# EAGLE library part DIMM_II_MODUL_240 (library con-hirose-dxlm)
DDR2 DIMM Socket Source: http://pinouts.ru/Memory/dimm_ddr2_pinout.shtml Auto generated by make-symbol-device-package-bsdl.ulp Rev. 20
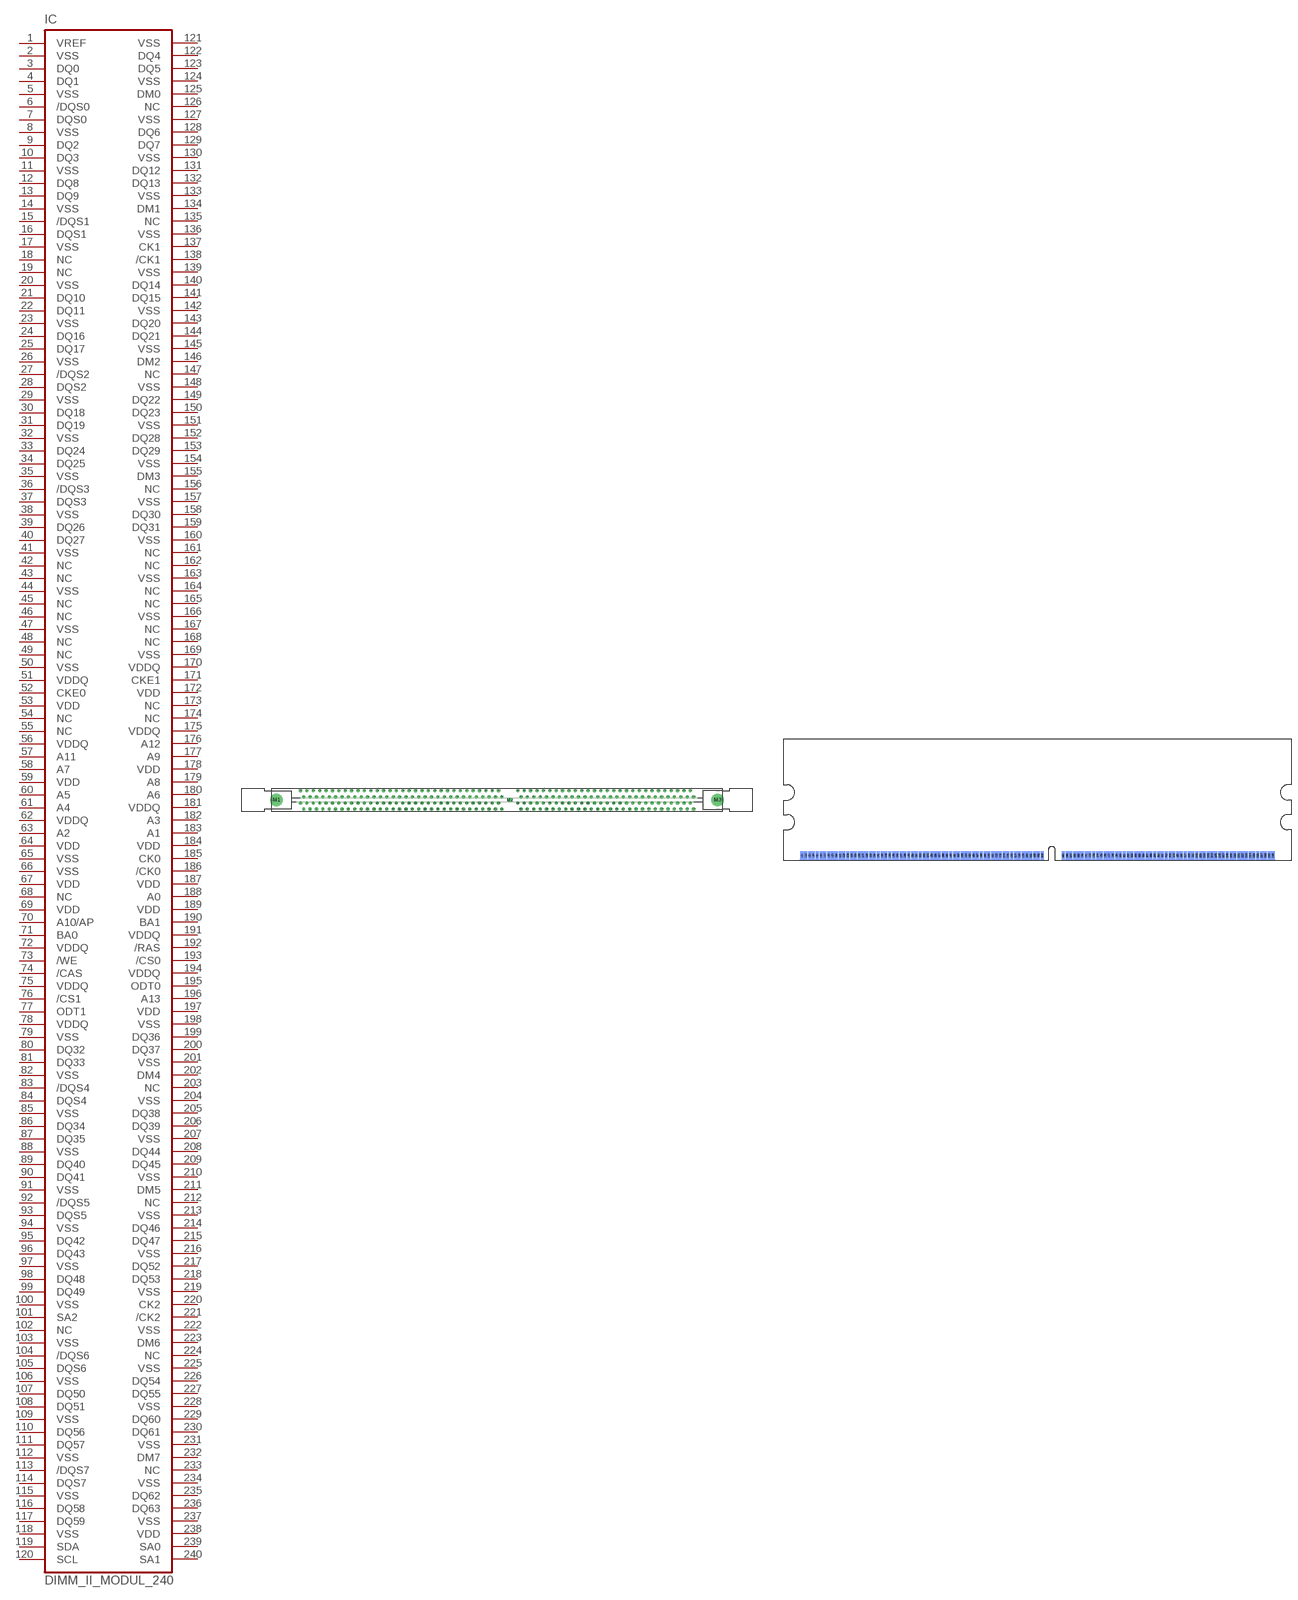
[diagram p138: symbol with the pads of 1734773-DDR2; footprints 1734773-DDR2, DIMII-240]

Designator prefix IC

## DIMM_II_MODUL_240  [1734773-DDR2]
1  VREF  pas
2  VSS  pas
3  DQ0  pas
4  DQ1  pas
5  VSS  pas
6  /DQS0  pas
7  DQS0  pas
8  VSS  pas
9  DQ2  pas
10  DQ3  pas
11  VSS  pas
12  DQ8  pas
13  DQ9  pas
14  VSS  pas
15  /DQS1  pas
16  DQS1  pas
17  VSS  pas
18  NC  pas
19  NC  pas
20  VSS  pas
21  DQ10  pas
22  DQ11  pas
23  VSS  pas
24  DQ16  pas
25  DQ17  pas
26  VSS  pas
27  /DQS2  pas
28  DQS2  pas
29  VSS  pas
30  DQ18  pas
31  DQ19  pas
32  VSS  pas
33  DQ24  pas
34  DQ25  pas
35  VSS  pas
36  /DQS3  pas
37  DQS3  pas
38  VSS  pas
39  DQ26  pas
40  DQ27  pas
41  VSS  pas
42  NC  pas
43  NC  pas
44  VSS  pas
45  NC  pas
46  NC  pas
47  VSS  pas
48  NC  pas
49  NC  pas
50  VSS  pas
51  VDDQ  pas
52  CKE0  pas
53  VDD  pas
54  NC  pas
55  NC  pas
56  VDDQ  pas
57  A11  pas
58  A7  pas
59  VDD  pas
60  A5  pas
61  A4  pas
62  VDDQ  pas
63  A2  pas
64  VDD  pas
65  VSS  pas
66  VSS  pas
67  VDD  pas
68  NC  pas
69  VDD  pas
70  A10/AP  pas
71  BA0  pas
72  VDDQ  pas
73  /WE  pas
74  /CAS  pas
75  VDDQ  pas
76  /CS1  pas
77  ODT1  pas
78  VDDQ  pas
79  VSS  pas
80  DQ32  pas
81  DQ33  pas
82  VSS  pas
83  /DQS4  pas
84  DQS4  pas
85  VSS  pas
86  DQ34  pas
87  DQ35  pas
88  VSS  pas
89  DQ40  pas
90  DQ41  pas
91  VSS  pas
92  /DQS5  pas
93  DQS5  pas
94  VSS  pas
95  DQ42  pas
96  DQ43  pas
97  VSS  pas
98  DQ48  pas
99  DQ49  pas
100  VSS  pas
101  SA2  pas
102  NC  pas
103  VSS  pas
104  /DQS6  pas
105  DQS6  pas
106  VSS  pas
107  DQ50  pas
108  DQ51  pas
109  VSS  pas
110  DQ56  pas
111  DQ57  pas
112  VSS  pas
113  /DQS7  pas
114  DQS7  pas
115  VSS  pas
116  DQ58  pas
117  DQ59  pas
118  VSS  pas
119  SDA  pas
120  SCL  pas
121  VSS  pas
122  DQ4  pas
123  DQ5  pas
124  VSS  pas
125  DM0  pas
126  NC  pas
127  VSS  pas
128  DQ6  pas
129  DQ7  pas
130  VSS  pas
131  DQ12  pas
132  DQ13  pas
133  VSS  pas
134  DM1  pas
135  NC  pas
136  VSS  pas
137  CK1  pas
138  /CK1  pas
139  VSS  pas
140  DQ14  pas
141  DQ15  pas
142  VSS  pas
143  DQ20  pas
144  DQ21  pas
145  VSS  pas
146  DM2  pas
147  NC  pas
148  VSS  pas
149  DQ22  pas
150  DQ23  pas
151  VSS  pas
152  DQ28  pas
153  DQ29  pas
154  VSS  pas
155  DM3  pas
156  NC  pas
157  VSS  pas
158  DQ30  pas
159  DQ31  pas
160  VSS  pas
161  NC  pas
162  NC  pas
163  VSS  pas
164  NC  pas
165  NC  pas
166  VSS  pas
167  NC  pas
168  NC  pas
169  VSS  pas
170  VDDQ  pas
171  CKE1  pas
172  VDD  pas
173  NC  pas
174  NC  pas
175  VDDQ  pas
176  A12  pas
177  A9  pas
178  VDD  pas
179  A8  pas
180  A6  pas
181  VDDQ  pas
182  A3  pas
183  A1  pas
184  VDD  pas
185  CK0  pas
186  /CK0  pas
187  VDD  pas
188  A0  pas
189  VDD  pas
190  BA1  pas
191  VDDQ  pas
192  /RAS  pas
193  /CS0  pas
194  VDDQ  pas
195  ODT0  pas
196  A13  pas
197  VDD  pas
198  VSS  pas
199  DQ36  pas
200  DQ37  pas
201  VSS  pas
202  DM4  pas
203  NC  pas
204  VSS  pas
205  DQ38  pas
206  DQ39  pas
207  VSS  pas
208  DQ44  pas
209  DQ45  pas
210  VSS  pas
211  DM5  pas
212  NC  pas
213  VSS  pas
214  DQ46  pas
215  DQ47  pas
216  VSS  pas
217  DQ52  pas
218  DQ53  pas
219  VSS  pas
220  CK2  pas
221  /CK2  pas
222  VSS  pas
223  DM6  pas
224  NC  pas
225  VSS  pas
226  DQ54  pas
227  DQ55  pas
228  VSS  pas
229  DQ60  pas
230  DQ61  pas
231  VSS  pas
232  DM7  pas
233  NC  pas
234  VSS  pas
235  DQ62  pas
236  DQ63  pas
237  VSS  pas
238  VDD  pas
239  SA0  pas
240  SA1  pas

## DIMM_II_MODUL_240-CARD  [DIMII-240]
Pads as for 1734773-DDR2

## Footprint 1734773-DDR2 (pad centres in mm)
DIMM II (DDR II) 240 Pin Connector Source: http://catalog.tycoelectronics.com .. ENG_CD_1734773_B.tif
drill 0.5 pad 0.9: 1 -64.5,-2.85; 2 -65.5,-0.95; 3 -62.5,-2.85; 4 -63.5,-0.95; 5 -60.5,-2.85; 6 -61.5,-0.95; 7 -58.5,-2.85; 8 -59.5,-0.95; 9 -56.5,-2.85; 10 -57.5,-0.95; 11 -54.5,-2.85; 12 -55.5,-0.95; 13 -52.5,-2.85; 14 -53.5,-0.95; 15 -50.5,-2.85; 16 -51.5,-0.95; 17 -48.5,-2.85; 18 -49.5,-0.95; 19 -46.5,-2.85; 20 -47.5,-0.95; 21 -44.5,-2.85; 22 -45.5,-0.95; 23 -42.5,-2.85; 24 -43.5,-0.95; 25 -40.5,-2.85; 26 -41.5,-0.95; 27 -38.5,-2.85; 28 -39.5,-0.95; 29 -36.5,-2.85; 30 -37.5,-0.95; 31 -34.5,-2.85; 32 -35.5,-0.95; 33 -32.5,-2.85; 34 -33.5,-0.95; 35 -30.5,-2.85; 36 -31.5,-0.95; 37 -28.5,-2.85; 38 -29.5,-0.95; 39 -26.5,-2.85; 40 -27.5,-0.95; 41 -24.5,-2.85; 42 -25.5,-0.95; 43 -22.5,-2.85; 44 -23.5,-0.95; 45 -20.5,-2.85; 46 -21.5,-0.95; 47 -18.5,-2.85; 48 -19.5,-0.95; 49 -16.5,-2.85; 50 -17.5,-0.95; 51 -14.5,-2.85; 52 -15.5,-0.95; 53 -12.5,-2.85; 54 -13.5,-0.95; 55 -10.5,-2.85; 56 -11.5,-0.95; 57 -8.5,-2.85; 58 -9.5,-0.95; 59 -6.5,-2.85; 60 -7.5,-0.95; 61 -4.5,-2.85; 62 -5.5,-0.95; 63 -2.5,-2.85; 64 -3.5,-0.95; 65 3.5,-2.85; 66 2.5,-0.95; 67 5.5,-2.85; 68 4.5,-0.95; 69 7.5,-2.85; 70 6.5,-0.95; 71 9.5,-2.85; 72 8.5,-0.95; 73 11.5,-2.85; 74 10.5,-0.95; 75 13.5,-2.85; 76 12.5,-0.95; 77 15.5,-2.85; 78 14.5,-0.95; 79 17.5,-2.85; 80 16.5,-0.95; 81 19.5,-2.85; 82 18.5,-0.95; 83 21.5,-2.85; 84 20.5,-0.95; 85 23.5,-2.85; 86 22.5,-0.95; 87 25.5,-2.85; 88 24.5,-0.95; 89 27.5,-2.85; 90 26.5,-0.95; 91 29.5,-2.85; 92 28.5,-0.95; 93 31.5,-2.85; 94 30.5,-0.95; 95 33.5,-2.85; 96 32.5,-0.95; 97 35.5,-2.85; 98 34.5,-0.95; 99 37.5,-2.85; 100 36.5,-0.95; 101 39.5,-2.85; 102 38.5,-0.95; 103 41.5,-2.85; 104 40.5,-0.95; 105 43.5,-2.85; 106 42.5,-0.95; 107 45.5,-2.85; 108 44.5,-0.95; 109 47.5,-2.85; 110 46.5,-0.95; 111 49.5,-2.85; 112 48.5,-0.95; 113 51.5,-2.85; 114 50.5,-0.95; 115 53.5,-2.85; 116 52.5,-0.95; 117 55.5,-2.85; 118 54.5,-0.95; 119 57.5,-2.85; 120 56.5,-0.95; 121 -64.5,0.95; 122 -65.5,2.85; 123 -62.5,0.95; 124 -63.5,2.85; 125 -60.5,0.95; 126 -61.5,2.85; 127 -58.5,0.95; 128 -59.5,2.85; 129 -56.5,0.95; 130 -57.5,2.85; 131 -54.5,0.95; 132 -55.5,2.85; 133 -52.5,0.95; 134 -53.5,2.85; 135 -50.5,0.95; 136 -51.5,2.85; 137 -48.5,0.95; 138 -49.5,2.85; 139 -46.5,0.95; 140 -47.5,2.85; 141 -44.5,0.95; 142 -45.5,2.85; 143 -42.5,0.95; 144 -43.5,2.85; 145 -40.5,0.95; 146 -41.5,2.85; 147 -38.5,0.95; 148 -39.5,2.85; 149 -36.5,0.95; 150 -37.5,2.85; 151 -34.5,0.95; 152 -35.5,2.85; 153 -32.5,0.95; 154 -33.5,2.85; 155 -30.5,0.95; 156 -31.5,2.85; 157 -28.5,0.95; 158 -29.5,2.85; 159 -26.5,0.95; 160 -27.5,2.85; 161 -24.5,0.95; 162 -25.5,2.85; 163 -22.5,0.95; 164 -23.5,2.85; 165 -20.5,0.95; 166 -21.5,2.85; 167 -18.5,0.95; 168 -19.5,2.85; 169 -16.5,0.95; 170 -17.5,2.85; 171 -14.5,0.95; 172 -15.5,2.85; 173 -12.5,0.95; 174 -13.5,2.85; 175 -10.5,0.95; 176 -11.5,2.85; 177 -8.5,0.95; 178 -9.5,2.85; 179 -6.5,0.95; 180 -7.5,2.85; 181 -4.5,0.95; 182 -5.5,2.85; 183 -2.5,0.95; 184 -3.5,2.85; 185 3.5,0.95; 186 2.5,2.85; 187 5.5,0.95; 188 4.5,2.85; 189 7.5,0.95; 190 6.5,2.85; 191 9.5,0.95; 192 8.5,2.85; 193 11.5,0.95; 194 10.5,2.85; 195 13.5,0.95; 196 12.5,2.85; 197 15.5,0.95; 198 14.5,2.85; 199 17.5,0.95; 200 16.5,2.85; 201 19.5,0.95; 202 18.5,2.85; 203 21.5,0.95; 204 20.5,2.85; 205 23.5,0.95; 206 22.5,2.85; 207 25.5,0.95; 208 24.5,2.85; 209 27.5,0.95; 210 26.5,2.85; 211 29.5,0.95; 212 28.5,2.85; 213 31.5,0.95; 214 30.5,2.85; 215 33.5,0.95; 216 32.5,2.85; 217 35.5,0.95; 218 34.5,2.85; 219 37.5,0.95; 220 36.5,2.85; 221 39.5,0.95; 222 38.5,2.85; 223 41.5,0.95; 224 40.5,2.85; 225 43.5,0.95; 226 42.5,2.85; 227 45.5,0.95; 228 44.5,2.85; 229 47.5,0.95; 230 46.5,2.85; 231 49.5,0.95; 232 48.5,2.85; 233 51.5,0.95; 234 50.5,2.85; 235 53.5,0.95; 236 52.5,2.85; 237 55.5,0.95; 238 54.5,2.85; 239 57.5,0.95; 240 56.5,2.85
drill 2.8 pad 3.81: M1 -73,0; M3 65,0
drill 0.8 pad 1.5: M2 0,0

## Footprint DIMII-240 (pad centres in mm)
DIMM MODUL 240 Pol. DDR2 Source: http://www.ortodoxism.ro/datasheets/infineon/1-DS_512M_T11_ubu_v0.84.pdf'
smd 0.8 x 2.3: 1 -65.5,1.25; 2 -64.5,1.25; 3 -63.5,1.25; 4 -62.5,1.25; 5 -61.5,1.25; 6 -60.5,1.25; 7 -59.5,1.25; 8 -58.5,1.25; 9 -57.5,1.25; 10 -56.5,1.25; 11 -55.5,1.25; 12 -54.5,1.25; 13 -53.5,1.25; 14 -52.5,1.25; 15 -51.5,1.25; 16 -50.5,1.25; 17 -49.5,1.25; 18 -48.5,1.25; 19 -47.5,1.25; 20 -46.5,1.25; 21 -45.5,1.25; 22 -44.5,1.25; 23 -43.5,1.25; 24 -42.5,1.25; 25 -41.5,1.25; 26 -40.5,1.25; 27 -39.5,1.25; 28 -38.5,1.25; 29 -37.5,1.25; 30 -36.5,1.25; 31 -35.5,1.25; 32 -34.5,1.25; 33 -33.5,1.25; 34 -32.5,1.25; 35 -31.5,1.25; 36 -30.5,1.25; 37 -29.5,1.25; 38 -28.5,1.25; 39 -27.5,1.25; 40 -26.5,1.25; 41 -25.5,1.25; 42 -24.5,1.25; 43 -23.5,1.25; 44 -22.5,1.25; 45 -21.5,1.25; 46 -20.5,1.25; 47 -19.5,1.25; 48 -18.5,1.25; 49 -17.5,1.25; 50 -16.5,1.25; 51 -15.5,1.25; 52 -14.5,1.25; 53 -13.5,1.25; 54 -12.5,1.25; 55 -11.5,1.25; 56 -10.5,1.25; 57 -9.5,1.25; 58 -8.5,1.25; 59 -7.5,1.25; 60 -6.5,1.25; 61 -5.5,1.25; 62 -4.5,1.25; 63 -3.5,1.25; 64 -2.5,1.25; 65 3,1.25; 66 4,1.25; 67 5,1.25; 68 6,1.25; 69 7,1.25; 70 8,1.25; 71 9,1.25; 72 10,1.25; 73 11,1.25; 74 12,1.25; 75 13,1.25; 76 14,1.25; 77 15,1.25; 78 16,1.25; 79 17,1.25; 80 18,1.25; 81 19,1.25; 82 20,1.25; 83 21,1.25; 84 22,1.25; 85 23,1.25; 86 24,1.25; 87 25,1.25; 88 26,1.25; 89 27,1.25; 90 28,1.25; 91 29,1.25; 92 30,1.25; 93 31,1.25; 94 32,1.25; 95 33,1.25; 96 34,1.25; 97 35,1.25; 98 36,1.25; 99 37,1.25; 100 38,1.25; 101 39,1.25; 102 40,1.25; 103 41,1.25; 104 42,1.25; 105 43,1.25; 106 44,1.25; 107 45,1.25; 108 46,1.25; 109 47,1.25; 110 48,1.25; 111 49,1.25; 112 50,1.25; 113 51,1.25; 114 52,1.25; 115 53,1.25; 116 54,1.25; 117 55,1.25; 118 56,1.25; 119 57,1.25; 120 58,1.25
smd 0.8 x 2.3 bottom: 121 -65.5,1.25; 122 -64.5,1.25; 123 -63.5,1.25; 124 -62.5,1.25; 125 -61.5,1.25; 126 -60.5,1.25; 127 -59.5,1.25; 128 -58.5,1.25; 129 -57.5,1.25; 130 -56.5,1.25; 131 -55.5,1.25; 132 -54.5,1.25; 133 -53.5,1.25; 134 -52.5,1.25; 135 -51.5,1.25; 136 -50.5,1.25; 137 -49.5,1.25; 138 -48.5,1.25; 139 -47.5,1.25; 140 -46.5,1.25; 141 -45.5,1.25; 142 -44.5,1.25; 143 -43.5,1.25; 144 -42.5,1.25; 145 -41.5,1.25; 146 -40.5,1.25; 147 -39.5,1.25; 148 -38.5,1.25; 149 -37.5,1.25; 150 -36.5,1.25; 151 -35.5,1.25; 152 -34.5,1.25; 153 -33.5,1.25; 154 -32.5,1.25; 155 -31.5,1.25; 156 -30.5,1.25; 157 -29.5,1.25; 158 -28.5,1.25; 159 -27.5,1.25; 160 -26.5,1.25; 161 -25.5,1.25; 162 -24.5,1.25; 163 -23.5,1.25; 164 -22.5,1.25; 165 -21.5,1.25; 166 -20.5,1.25; 167 -19.5,1.25; 168 -18.5,1.25; 169 -17.5,1.25; 170 -16.5,1.25; 171 -15.5,1.25; 172 -14.5,1.25; 173 -13.5,1.25; 174 -12.5,1.25; 175 -11.5,1.25; 176 -10.5,1.25; 177 -9.5,1.25; 178 -8.5,1.25; 179 -7.5,1.25; 180 -6.5,1.25; 181 -5.5,1.25; 182 -4.5,1.25; 183 -3.5,1.25; 184 -2.5,1.25; 185 3,1.25; 186 4,1.25; 187 5,1.25; 188 6,1.25; 189 7,1.25; 190 8,1.25; 191 9,1.25; 192 10,1.25; 193 11,1.25; 194 12,1.25; 195 13,1.25; 196 14,1.25; 197 15,1.25; 198 16,1.25; 199 17,1.25; 200 18,1.25; 201 19,1.25; 202 20,1.25; 203 21,1.25; 204 22,1.25; 205 23,1.25; 206 24,1.25; 207 25,1.25; 208 26,1.25; 209 27,1.25; 210 28,1.25; 211 29,1.25; 212 30,1.25; 213 31,1.25; 214 32,1.25; 215 33,1.25; 216 34,1.25; 217 35,1.25; 218 36,1.25; 219 37,1.25; 220 38,1.25; 221 39,1.25; 222 40,1.25; 223 41,1.25; 224 42,1.25; 225 43,1.25; 226 44,1.25; 227 45,1.25; 228 46,1.25; 229 47,1.25; 230 48,1.25; 231 49,1.25; 232 50,1.25; 233 51,1.25; 234 52,1.25; 235 53,1.25; 236 54,1.25; 237 55,1.25; 238 56,1.25; 239 57,1.25; 240 58,1.25